# Altium schematic symbol library ADR1581.SchLib: 1 symbol
Pins are listed as number, name and electrical type; pins without a type are passive.

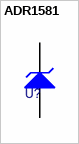
[diagram p0: symbol ADR1581]

## ADR1581
designator U?
pins: 1 V+, 2 V-